# Altium schematic symbol library PMA3-83LN&plus_.SchLib: 2 symbols
Pins are listed as number, name and electrical type; pins without a type are passive.

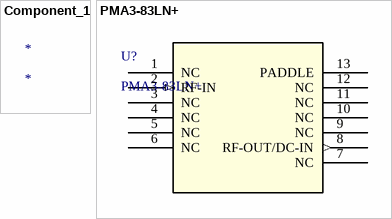
[diagram p0: symbols Component_1 to PMA3-83LN+]

## Component_1
designator *

## PMA3-83LN+
designator U?
No Description Available; Mfr_Name: Mini Circuits; Copyright: Copyright (C) 2023 Ultra Librarian. All rights reserved.; Manufacturer_Part_Number: PMA3-83LN+; RefDes: RefDes; Type: DEV
footprint DQ1225_MNC
pins: 1 NC, 2 RF-IN (in), 3 NC, 4 NC, 5 NC, 6 NC, 7 NC, 8 RF-OUT/DC-IN (out), 9 NC, 10 NC, 11 NC, 12 NC, 13 PADDLE (power)